# Altium schematic symbol library SCH - POWER - SWITCHMODE - TI LM2734XMK.SCHLIB: 1 symbol
Pins are listed as number, name and electrical type; pins without a type are passive.

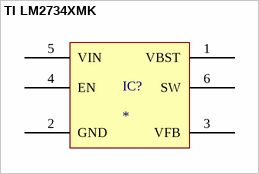
[diagram p0: symbol TI LM2734XMK]

## TI LM2734XMK
designator IC?
pins: 1 VBST, 2 GND, 3 VFB, 4 EN, 5 VIN, 6 SW